# EAGLE library part AO7801 (library alpha)
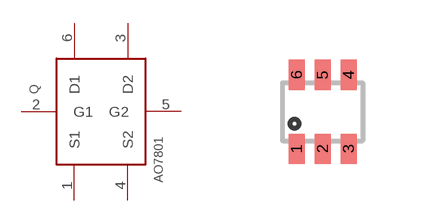
[diagram p1: symbol with the pads of SC70-6; footprint SC70-6]

Designator prefix Q

## AO7801  [SC70-6]
1  S1
2  G1
3  D2
4  S2
5  G2
6  D1

## Footprint SC70-6 (pad centres in mm)
smd 0.4 x 0.75: 1 -0.65,-0.925; 2 0,-0.925; 3 0.65,-0.925; 4 0.65,0.925; 5 0,0.925; 6 -0.65,0.925